# Altium footprint library R_3637_9194.PcbLib: 1 footprints
Each footprint in its own frame and in the unit in brackets; x right, y up, seen from the top. Pads: shape width x height; smd on the part's side, far side on the other; paste and mask are expansions set on the pad; w line width, h text height; cw(c..) or ccw(c..) is an arc to the next point about the centre after c.
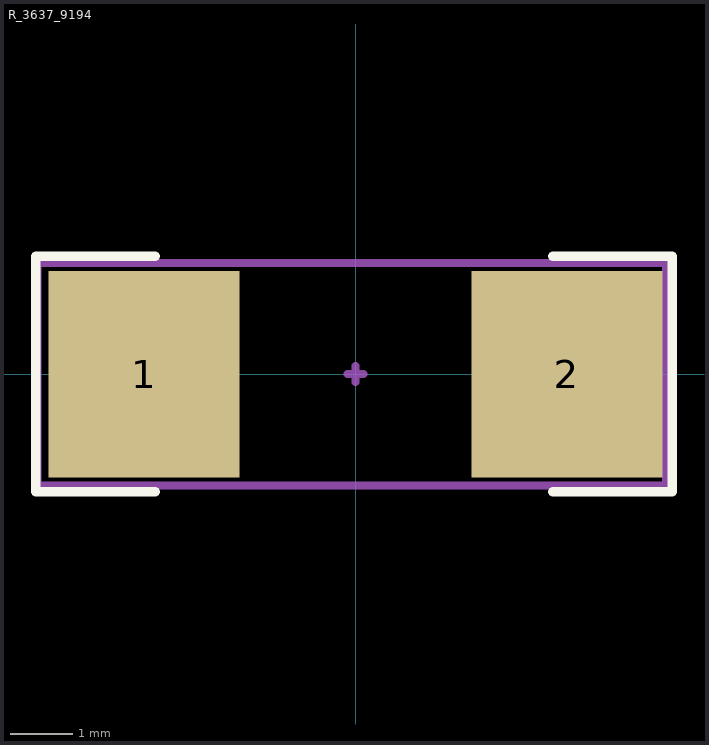
[diagram p0: the footprint, top view; thin cyan lines are the x and y axes]

## R_3637_9194 [mm]
pads (2):
  rect 3.048x3.3 smd: 1(-3.375,0) 2(3.375,0)
Top Overlay:
  lines w0.152: -3.2,-1.88 -5.105,-1.88 -5.105,1.884 -3.2,1.884 ; 3.15,-1.88 5.055,-1.88 5.055,1.884 3.15,1.884
Mechanical 15:
  lines w0.127: -0.127,0 0.127,0 ; 0,-0.127 0,0.127 ; -5.08,-1.778 4.953,-1.778 4.953,1.778 -5.08,1.778 -5.08,-1.778